# Altium schematic symbol library SCH - MCU - ATSAM - MICROCHIP ATSAMS70J21A-MN QFN64.SchLib: 1 symbol
Pins are listed as number, name and electrical type; pins without a type are passive.

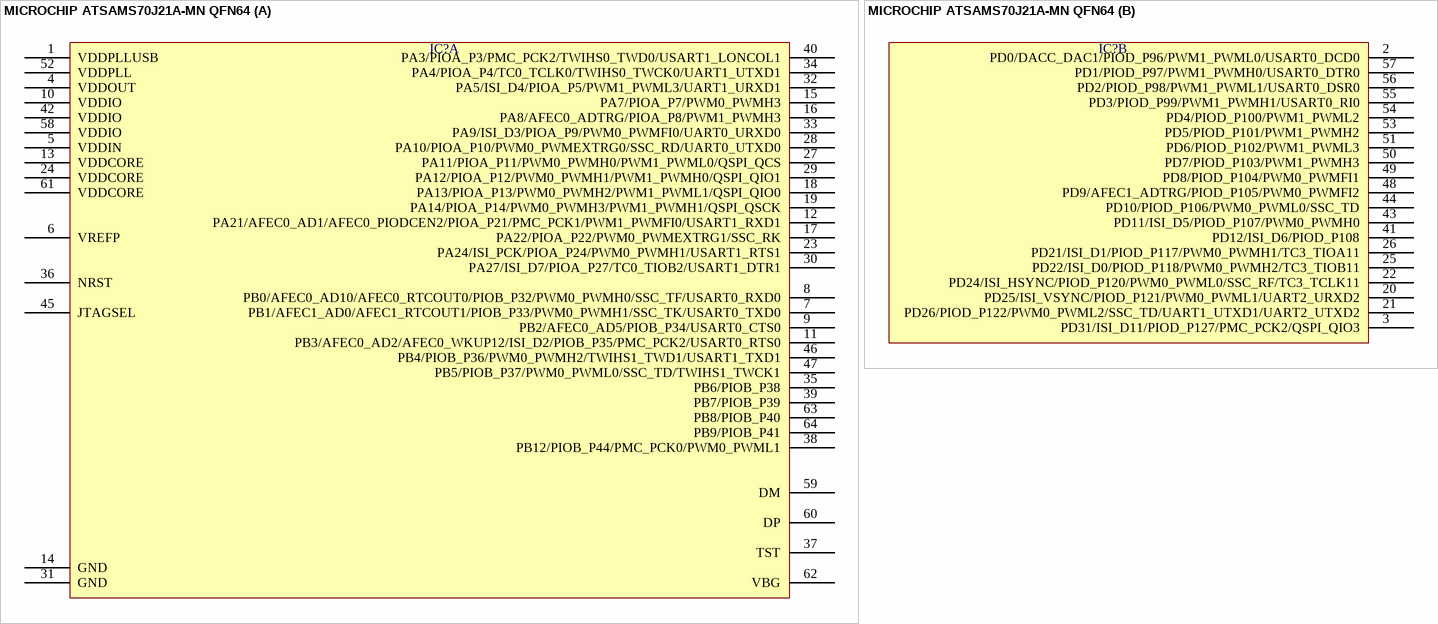
[diagram p0: symbol MICROCHIP ATSAMS70J21A-MN QFN64]

## MICROCHIP ATSAMS70J21A-MN QFN64
designator IC?  (value not drawn)
part A pins: 1 VDDPLLUSB, 4 VDDOUT, 5 VDDIN, 6 VREFP, 7 PB1/AFEC1_AD0/AFEC1_RTCOUT1/PIOB_P33/PWM0_PWMH1/SSC_TK/USART0_TXD0, 8 PB0/AFEC0_AD10/AFEC0_RTCOUT0/PIOB_P32/PWM0_PWMH0/SSC_TF/USART0_RXD0, 9 PB2/AFEC0_AD5/PIOB_P34/USART0_CTS0, 10 VDDIO, 11 PB3/AFEC0_AD2/AFEC0_WKUP12/ISI_D2/PIOB_P35/PMC_PCK2/USART0_RTS0, 12 PA21/AFEC0_AD1/AFEC0_PIODCEN2/PIOA_P21/PMC_PCK1/PWM1_PWMFI0/USART1_RXD1, 13 VDDCORE, 14 GND, 15 PA7/PIOA_P7/PWM0_PWMH3, 16 PA8/AFEC0_ADTRG/PIOA_P8/PWM1_PWMH3, 17 PA22/PIOA_P22/PWM0_PWMEXTRG1/SSC_RK, 18 PA13/PIOA_P13/PWM0_PWMH2/PWM1_PWML1/QSPI_QIO0, 19 PA14/PIOA_P14/PWM0_PWMH3/PWM1_PWMH1/QSPI_QSCK, 23 PA24/ISI_PCK/PIOA_P24/PWM0_PWMH1/USART1_RTS1, 24 VDDCORE, 27 PA11/PIOA_P11/PWM0_PWMH0/PWM1_PWML0/QSPI_QCS, 28 PA10/PIOA_P10/PWM0_PWMEXTRG0/SSC_RD/UART0_UTXD0, 29 PA12/PIOA_P12/PWM0_PWMH1/PWM1_PWMH0/QSPI_QIO1, 30 PA27/ISI_D7/PIOA_P27/TC0_TIOB2/USART1_DTR1, 31 GND, 32 PA5/ISI_D4/PIOA_P5/PWM1_PWML3/UART1_URXD1, 33 PA9/ISI_D3/PIOA_P9/PWM0_PWMFI0/UART0_URXD0, 34 PA4/PIOA_P4/TC0_TCLK0/TWIHS0_TWCK0/UART1_UTXD1, 35 PB6/PIOB_P38, 36 NRST, 37 TST, 38 PB12/PIOB_P44/PMC_PCK0/PWM0_PWML1, 39 PB7/PIOB_P39, 40 PA3/PIOA_P3/PMC_PCK2/TWIHS0_TWD0/USART1_LONCOL1, 42 VDDIO, 45 JTAGSEL, 46 PB4/PIOB_P36/PWM0_PWMH2/TWIHS1_TWD1/USART1_TXD1, 47 PB5/PIOB_P37/PWM0_PWML0/SSC_TD/TWIHS1_TWCK1, 52 VDDPLL, 58 VDDIO, 59 DM, 60 DP, 61 VDDCORE, 62 VBG, 63 PB8/PIOB_P40, 64 PB9/PIOB_P41
part B pins: 2 PD0/DACC_DAC1/PIOD_P96/PWM1_PWML0/USART0_DCD0, 3 PD31/ISI_D11/PIOD_P127/PMC_PCK2/QSPI_QIO3, 20 PD25/ISI_VSYNC/PIOD_P121/PWM0_PWML1/UART2_URXD2, 21 PD26/PIOD_P122/PWM0_PWML2/SSC_TD/UART1_UTXD1/UART2_UTXD2, 22 PD24/ISI_HSYNC/PIOD_P120/PWM0_PWML0/SSC_RF/TC3_TCLK11, 25 PD22/ISI_D0/PIOD_P118/PWM0_PWMH2/TC3_TIOB11, 26 PD21/ISI_D1/PIOD_P117/PWM0_PWMH1/TC3_TIOA11, 41 PD12/ISI_D6/PIOD_P108, 43 PD11/ISI_D5/PIOD_P107/PWM0_PWMH0, 44 PD10/PIOD_P106/PWM0_PWML0/SSC_TD, 48 PD9/AFEC1_ADTRG/PIOD_P105/PWM0_PWMFI2, 49 PD8/PIOD_P104/PWM0_PWMFI1, 50 PD7/PIOD_P103/PWM1_PWMH3, 51 PD6/PIOD_P102/PWM1_PWML3, 53 PD5/PIOD_P101/PWM1_PWMH2, 54 PD4/PIOD_P100/PWM1_PWML2, 55 PD3/PIOD_P99/PWM1_PWMH1/USART0_RI0, 56 PD2/PIOD_P98/PWM1_PWML1/USART0_DSR0, 57 PD1/PIOD_P97/PWM1_PWMH0/USART0_DTR0